# EAGLE library part FTSH-118-01-L-MT (library tuckerLib)
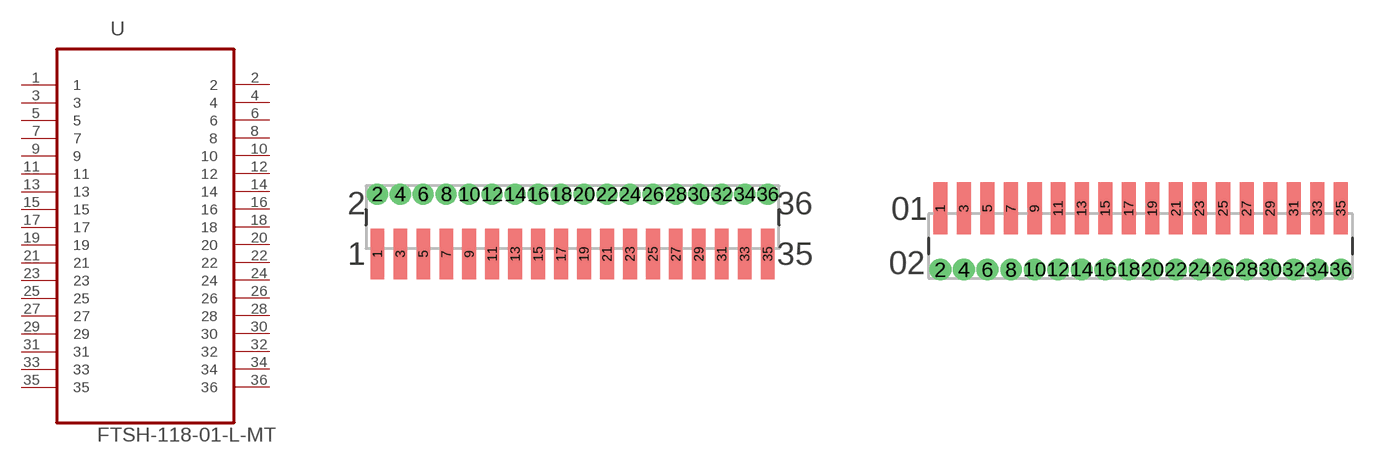
[diagram p0: symbol with the pads of FTSH-118-01-L-MT; footprints FTSH-118-01-L-MT, FTSH-118-01-L-MT-INVERTED]

Designator prefix -

## FTSH-118-01-L-MTREGULAR  [FTSH-118-01-L-MT]
1  1  pas
2  2  pas
3  3  pas
4  4  pas
5  5  pas
6  6  pas
7  7  pas
8  8  pas
9  9  pas
10  10  pas
11  11  pas
12  12  pas
13  13  pas
14  14  pas
15  15  pas
16  16  pas
17  17  pas
18  18  pas
19  19  pas
20  20  pas
21  21  pas
22  22  pas
23  23  pas
24  24  pas
25  25  pas
26  26  pas
27  27  pas
28  28  pas
29  29  pas
30  30  pas
31  31  pas
32  32  pas
33  33  pas
34  34  pas
35  35  pas
36  36  pas

## FTSH-118-01-L-MTINVERTED  [FTSH-118-01-L-MT-INVERTED]
Pads as for FTSH-118-01-L-MT

## Footprint FTSH-118-01-L-MT (pad centres in mm)
smd 0.762 x 2.794: 1 -9.525,-2.032; 3 -8.255,-2.032; 5 -6.985,-2.032; 7 -5.715,-2.032; 9 -4.445,-2.032; 11 -3.175,-2.032; 13 -1.905,-2.032; 15 -0.635,-2.032; 17 0.635,-2.032; 19 1.905,-2.032; 21 3.175,-2.032; 23 4.445,-2.032; 25 5.715,-2.032; 27 6.985,-2.032; 29 8.255,-2.032; 31 9.525,-2.032; 33 10.795,-2.032; 35 12.065,-2.032
drill 0.66: 2 -9.525,1.27; 4 -8.255,1.27; 6 -6.985,1.27; 8 -5.715,1.27; 10 -4.445,1.27; 12 -3.175,1.27; 14 -1.905,1.27; 16 -0.635,1.27; 18 0.635,1.27; 20 1.905,1.27; 22 3.175,1.27; 24 4.445,1.27; 26 5.715,1.27; 28 6.985,1.27; 30 8.255,1.27; 32 9.525,1.27; 34 10.795,1.27; 36 12.065,1.27

## Footprint FTSH-118-01-L-MT-INVERTED (pad centres in mm)
smd 0.762 x 2.794: 1 -10.795,0.762; 3 -9.525,0.762; 5 -8.255,0.762; 7 -6.985,0.762; 9 -5.715,0.762; 11 -4.445,0.762; 13 -3.175,0.762; 15 -1.905,0.762; 17 -0.635,0.762; 19 0.635,0.762; 21 1.905,0.762; 23 3.175,0.762; 25 4.445,0.762; 27 5.715,0.762; 29 6.985,0.762; 31 8.255,0.762; 33 9.525,0.762; 35 10.795,0.762
drill 0.66: 2 -10.795,-2.54; 4 -9.525,-2.54; 6 -8.255,-2.54; 8 -6.985,-2.54; 10 -5.715,-2.54; 12 -4.445,-2.54; 14 -3.175,-2.54; 16 -1.905,-2.54; 18 -0.635,-2.54; 20 0.635,-2.54; 22 1.905,-2.54; 24 3.175,-2.54; 26 4.445,-2.54; 28 5.715,-2.54; 30 6.985,-2.54; 32 8.255,-2.54; 34 9.525,-2.54; 36 10.795,-2.54